# Altium footprint library THAIEASYFOOTPRINT_090120_AD2006.PcbLib: 57 footprints (part 2 of 4)
Each footprint in its own frame and in the unit in brackets; x right, y up, seen from the top. Pads: shape width x height; smd on the part's side, far side on the other; paste and mask are expansions set on the pad; w line width, h text height; cw(c..) or ccw(c..) is an arc to the next point about the centre after c.
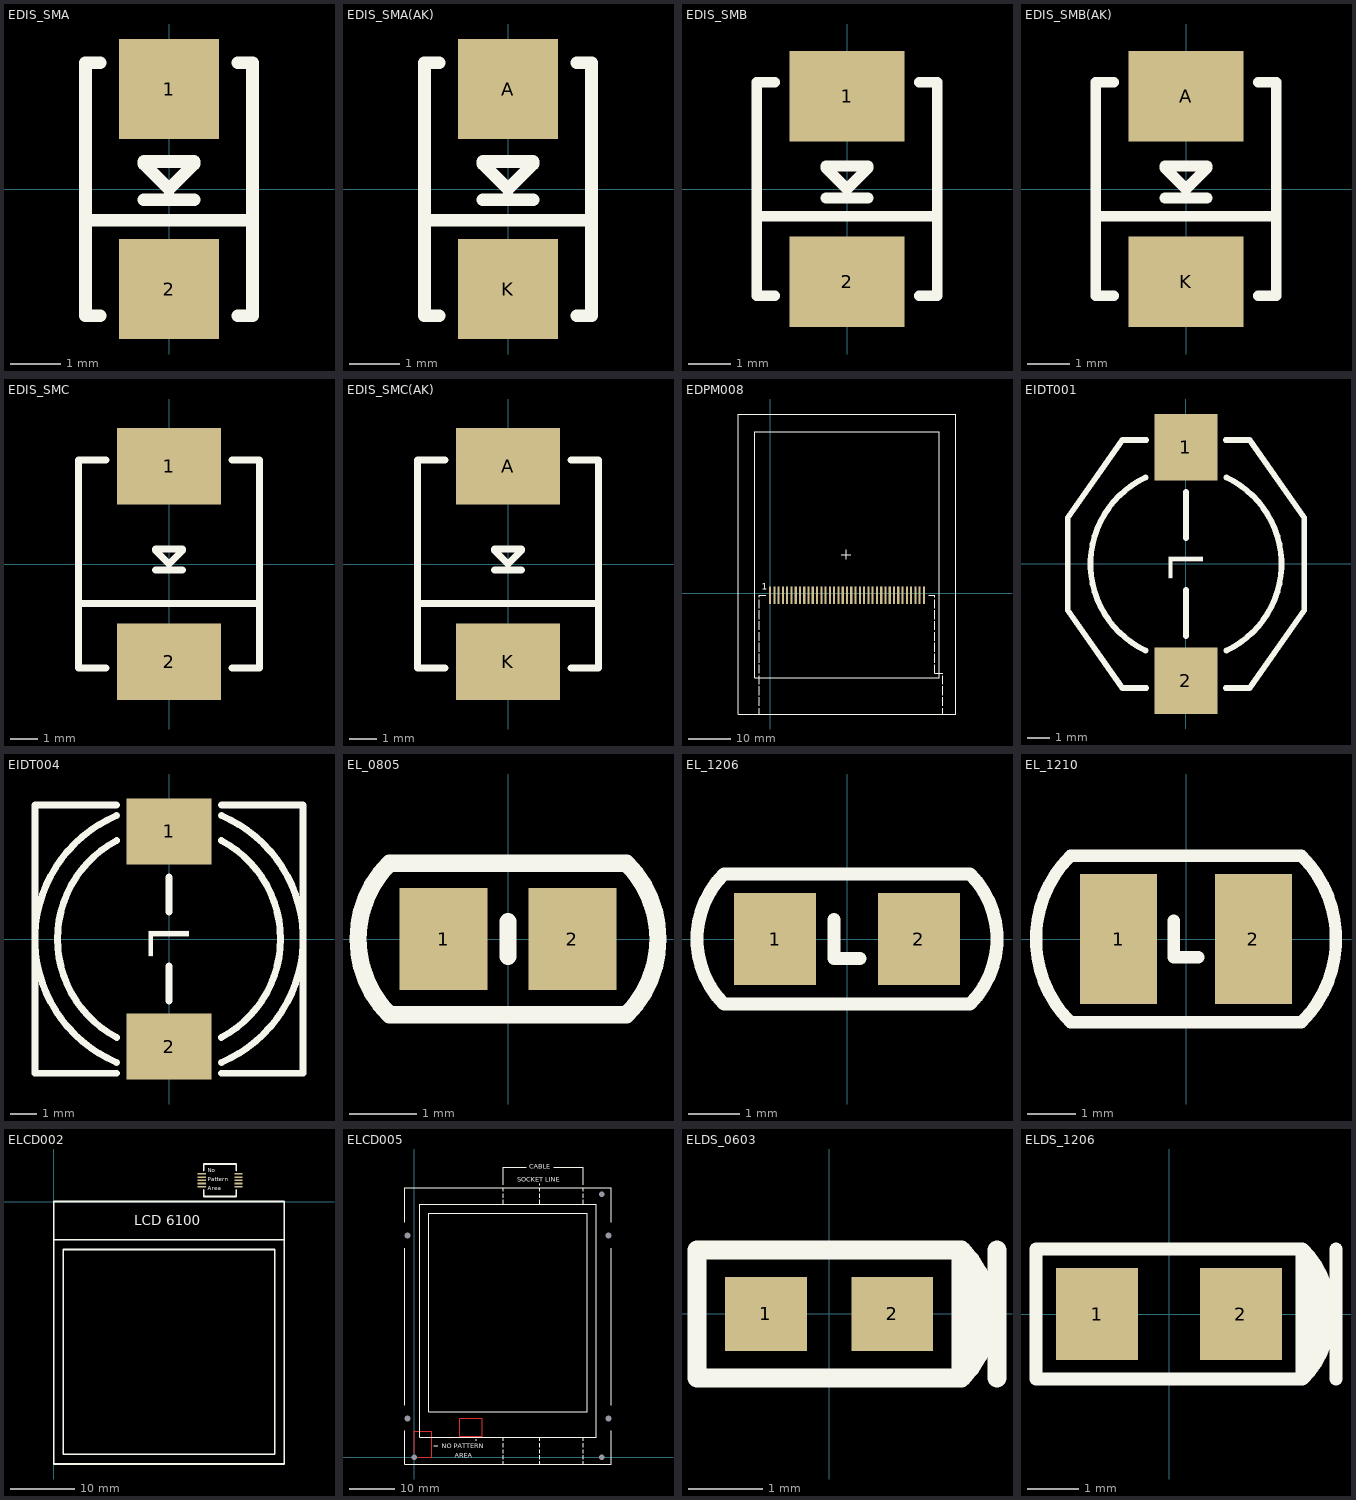
[diagram p1: the footprints below, top view; thin cyan lines are the x and y axes]

## EDIS_SMA [mm] "SURFACE MOUNT DIODE DO-214 AC (SMA)"
height 2.5
pads (2):
  rect 2x2 smd: 1(0,2) 2(0,-2)
Top Overlay:
  lines w0.254: -1.645,-0.625 1.67,-0.625 ; -1.375,-2.535 -1.67,-2.535 -1.67,-0.005 -1.67,2.525 -1.375,2.525 ; -0.5,-0.215 0.5,-0.215 ; 1.375,-2.535 1.67,-2.535 1.67,-0.005 1.67,2.525 1.375,2.525 ; -0.5,0.5 -0.5,0.55 0.5,0.55 0.5,0.5 0,0 -0.5,0.5

## EDIS_SMA(AK) [mm] "SURFACE MOUNT DIODE DO-214 AC (SMA)"
height 2.5
pads (2):
  rect 2x2 smd: A(0,2) K(0,-2)
Top Overlay:
  lines w0.254: -1.645,-0.625 1.67,-0.625 ; -1.375,-2.535 -1.67,-2.535 -1.67,-0.005 -1.67,2.525 -1.375,2.525 ; -0.5,-0.215 0.5,-0.215 ; 1.375,-2.535 1.67,-2.535 1.67,-0.005 1.67,2.525 1.375,2.525 ; -0.5,0.5 -0.5,0.55 0.5,0.55 0.5,0.5 0,0 -0.5,0.5

## EDIS_SMB [mm] "SURFACE MOUNT DIODE DO-214 AA (SMB)"
height 2.15
pads (2):
  rect 2.74x2.16 smd: 1(0,2.21) 2(0,-2.21)
Top Overlay:
  lines w0.254: -2.15,-0.65 2.15,-0.65 ; -1.725,-2.55 -2.15,-2.55 -2.15,2.55 -1.725,2.55 ; -0.5,-0.215 0.5,-0.215 ; 1.725,-2.55 2.15,-2.55 2.15,2.55 1.725,2.55 ; -0.5,0.5 -0.5,0.55 0.5,0.55 0.5,0.5 0,0 -0.5,0.5

## EDIS_SMB(AK) [mm] "SURFACE MOUNT DIODE DO-214 AA (SMB)"
height 2.15
pads (2):
  rect 2.74x2.16 smd: A(0,2.21) K(0,-2.21)
Top Overlay:
  lines w0.254: -2.15,-0.65 2.15,-0.65 ; -1.725,-2.55 -2.15,-2.55 -2.15,2.55 -1.725,2.55 ; -0.5,-0.215 0.5,-0.215 ; 1.725,-2.55 2.15,-2.55 2.15,2.55 1.725,2.55 ; -0.5,0.5 -0.5,0.55 0.5,0.55 0.5,0.5 0,0 -0.5,0.5

## EDIS_SMC [mm] "SURFACE MOUNT DIODE DO-214 AB (SMC)"
height 2.4
pads (2):
  rect 3.81x2.79 smd: 1(0,3.57) 2(0,-3.57)
Top Overlay:
  lines w0.254: -3.3,-1.45 3.3,-1.45 ; -2.3,-3.8 -3.3,-3.8 -3.3,3.8 -2.3,3.8 ; -0.5,-0.215 0.5,-0.215 ; 2.3,-3.8 3.3,-3.8 3.3,3.8 2.3,3.8 ; -0.5,0.5 -0.5,0.55 0.5,0.55 0.5,0.5 0,0 -0.5,0.5

## EDIS_SMC(AK) [mm] "SURFACE MOUNT DIODE DO-214 AB (SMC)"
height 2.4
pads (2):
  rect 3.81x2.79 smd: A(0,3.57) K(0,-3.57)
Top Overlay:
  lines w0.254: -3.3,-1.45 3.3,-1.45 ; -2.3,-3.8 -3.3,-3.8 -3.3,3.8 -2.3,3.8 ; -0.5,-0.215 0.5,-0.215 ; 2.3,-3.8 3.3,-3.8 3.3,3.8 2.3,3.8 ; -0.5,0.5 -0.5,0.55 0.5,0.55 0.5,0.5 0,0 -0.5,0.5

## EDPM008 [mm] "ELT240320TP -- 2.8\" Touch Screen TFT LCD 240x320 Dots"
pads (37):
  rect 0.5x4 smd: 1(0,-0.508) 2(1,-0.508) 3(2,-0.508) 4(3,-0.508) 5(4,-0.508) 6(5,-0.508) 7(6,-0.508) 8(7,-0.508) 9(8,-0.508) 10(9,-0.508) 11(10,-0.508) 12(11,-0.508) 13(12,-0.508) 14(13,-0.508) 15(14,-0.508) 16(15,-0.508) 17(16,-0.508) 18(17,-0.508) 19(18,-0.508) 20(19,-0.508) 21(20,-0.508) 22(21,-0.508) 23(22,-0.508) 24(23,-0.508) 25(24,-0.508) 26(25,-0.508) 27(26,-0.508) 28(27,-0.508) 29(28,-0.508) 30(29,-0.508) 31(30,-0.508) 32(31,-0.508) 33(32,-0.508) 34(33,-0.508) 35(34,-0.508) 36(35,-0.508) 37(36,-0.508)
Top Overlay:
  lines w0.254: -2.5,-26.924 -2.5,-28.3 ; -2.5,-26.416 -2.5,-24.384 ; -2.5,-23.876 -2.5,-21.844 ; -2.5,-21.336 -2.5,-19.304 ; -2.5,-18.796 -2.5,-16.764 ; -2.5,-16.256 -2.5,-14.224 ; -2.5,-13.716 -2.5,-11.684 ; -2.5,-11.176 -2.5,-9.144 ; -2.5,-8.636 -2.5,-6.604 ; -2.5,-6.096 -2.5,-4.064 ; -2.5,-3.556 -2.5,-1.524 ; -2.5,-1.016 -2.5,-0.5 -1.016,-0.5 ; 16.637,9 17.78,9 ; 17.78,7.857 17.78,9 ; 17.78,10.143 17.78,9 ; 18.923,9 17.78,9 ; 37.084,-0.5 38.5,-0.5 38.5,-1.016 ; 38.5,-18.8 40.4,-18.8 ; 38.5,-18.796 38.5,-16.764 ; 38.5,-16.256 38.5,-14.224 ; 38.5,-13.716 38.5,-11.684 ; 38.5,-11.176 38.5,-9.144 ; 38.5,-8.636 38.5,-6.604 ; 38.5,-6.096 38.5,-4.064 ; 38.5,-3.556 38.5,-1.524 ; 40.4,-28.3 40.4,-26.924 ; 40.4,-26.416 40.4,-24.384 ; 40.4,-23.876 40.4,-21.844 ; 40.4,-21.336 40.4,-19.304 ; -2.5,-28.3 -7.5,-28.3 -7.5,41.9 43.5,41.9 43.5,-28.3 -2.5,-28.3 ; -3.6,-19.8 39.6,-19.8 39.6,37.8 -3.6,37.8 -3.6,-19.8
  text "1" at -1.905,0.762 h1.52

## EIDT001 [mil] "P0752.104NLT -- INDUCTOR PWR UNSHIELD 100UH 1.2A SMD"
height 215
pads (2):
  rect 110x115 smd: 1(0,202.5) 2(0,-202.5)
Top Overlay:
  lines w10: -70,-150 cw(c0,0) -70,150 ; -69,-215 -110,-215 -205,-80 -205,0 -205,80 -110,215 -69,215 ; 0,-125 0,-45 ; 0,45 0,125 ; 69,-215 110,-215 205,-80 205,0 205,80 110,215 69,215 ; 70,-150 ccw(c0,0) 70,150
  text "L" at -30,20 h60

## EIDT004 [mm] "SLF10145T-101M1R0-PF -- INDUCTOR SHIELD PWR 100UH 10145 1.1A"
height 4.5
pads (2):
  rect 3.2x2.5 smd: 1(0,4.05) 2(0,-4.05)
Top Overlay:
  lines w0.254: -1.981,-5.055 -5.045,-5.055 -5.05,-5.05 -5.05,5.05 -1.981,5.05 ; -1.973,-4.649 cw(c0,0) -1.973,4.649 ; -1.972,-3.708 cw(c0,0) -1.972,3.708 ; 0,-2.337 0,-1.016 ; 0,1.016 0,2.337 ; 1.972,-3.708 ccw(c0,0) 1.972,3.708 ; 1.973,-4.649 ccw(c0,0) 1.973,4.649 ; 1.981,-5.055 5.045,-5.055 5.05,-5.05 5.05,5.05 1.981,5.05
  text "L" at -0.762,0.5 h1.52

## EL_0805 [mm] "INDUCTOR, FERRITE CHIP 0805"
height 2
pads (2):
  rect 1.3x1.5 smd: 1(-0.95,0) 2(0.95,0)
Top Overlay:
  lines w0.254: 0,-0.254 0,0.254 ; -1.75,-1.118 cw(c-0.632,0) -1.75,1.118 1.75,1.118 cw(c0.632,0) 1.75,-1.118 -1.75,-1.118

## EL_1206 [mm] "INDUCTOR, FERRITE CHIP 1206"
height 2
pads (2):
  rect 1.6x1.8 smd: 1(-1.4,0) 2(1.4,0)
Top Overlay:
  lines w0.254: -0.254,0.381 -0.254,-0.381 0.254,-0.381 ; -2.4,-1.27 cw(c-1.13,0) -2.4,1.27 2.4,1.27 cw(c1.13,0) 2.4,-1.27 -2.4,-1.27

## EL_1210 [mm] "INDUCTOR, FERRITE CHIP 1210"
height 2
pads (2):
  rect 1.6x2.7 smd: 1(-1.4,0) 2(1.4,0)
Top Overlay:
  lines w0.254: -0.254,0.381 -0.254,-0.381 0.254,-0.381 ; -2.4,-1.727 cw(c-0.673,0) -2.4,1.727 2.4,1.727 cw(c0.673,0) 2.4,-1.727 -2.4,-1.727

## ELCD002 [mm]
height 3.6
pads (10):
  rect 1.3x0.25 smd: 1(23.114,4.318) 2(23.114,3.818) 3(23.114,3.318) 4(23.114,2.818) 5(23.114,2.318) 6(28.868,2.318) 7(28.868,2.818) 8(28.868,3.318) 9(28.868,3.818) 10(28.868,4.318)
Top Overlay:
  lines w0.254: 0,-6 36,-6 ; 23.451,1.794 23.451,0.778 23.959,0.778 25.991,0.778 28.15,0.778 28.531,0.778 28.531,1.794 ; 23.451,4.842 23.451,5.858 25.991,5.858 ; 23.959,5.858 25.991,5.858 ; 28.531,4.842 28.531,5.858 28.023,5.858 25.991,5.858 ; 0,-41 36,-41 36,0 0,0 0,-41 ; 1.5,-39.5 1.5,-7.5 34.5,-7.5 34.5,-39.5 1.5,-39.5
  text "LCD 6100" at 12.573,-3.683 h1.52
  text "Area" at 24.086,1.794 h0.6
  text "Pattern" at 24.086,3.191 h0.6
  text "No" at 24.086,4.588 h0.6

## ELCD005 [mm] "DM176220TT5605 -- GLCD WITH TOUCH SCREEN"
height 4.4
pads (7):
  round 0 hole 1.2: 41(0,0) 41(41.2,0) 41(41.2,57.6)
  round 0 hole 1.3: ""(-1.472,8.508) ""(-1.472,48.6) ""(42.672,8.508) ""(42.672,48.6)
Top Layer:
  lines w0.254: 0,0.889 0,5.715 3.937,5.715 3.937,0 0.889,0 ; 9.986,4.572 14.986,4.572 14.986,8.509 9.986,8.509 9.986,4.572
Top Overlay:
  lines w0.254: -2,5.81 -2,-1.5 43.2,-1.5 43.2,5.81 ; -2,11.43 -2,45.815 ; -2,51.467 -2,59.1 43.2,59.1 43.2,51.467 ; 4.318,2.54 5.207,2.54 ; 13.589,3.556 13.589,3.937 ; 19.558,-1.5 19.558,-0.934 ; 19.558,-0.426 19.558,0.381 ; 19.558,0.841 19.558,1.648 ; 19.558,2.156 19.558,3.045 ; 19.558,3.553 19.558,4.36 ; 19.558,56.896 19.558,57.785 ; 19.558,58.293 19.558,59.1 ; 19.558,59.69 19.558,63.5 24.638,63.5 ; 19.559,55.581 19.559,56.388 ; 27.559,-1.5 27.559,-0.934 ; 27.559,-0.426 27.559,0.381 ; 27.559,0.841 27.559,1.648 ; 27.559,2.156 27.559,3.045 ; 27.559,3.553 27.559,4.36 ; 27.559,55.581 27.559,56.388 ; 27.559,56.896 27.559,57.785 ; 27.559,58.293 27.559,59.1 ; 27.559,59.563 27.559,59.944 ; 30.607,63.5 37.059,63.5 37.059,59.69 ; 37.059,-1.5 37.059,-0.934 ; 37.059,-0.426 37.059,0.381 ; 37.059,0.841 37.059,1.648 ; 37.059,2.156 37.059,3.045 ; 37.059,3.553 37.059,4.36 ; 37.058,55.581 37.058,56.388 ; 37.059,56.896 37.059,57.785 ; 37.059,58.293 37.059,59.1 ; 43.2,11.43 43.2,45.815 ; 1.3,4.36 1.3,55.48 39.9,55.48 39.9,4.36 1.3,4.36 ; 3.175,9.92 3.175,53.48 38.025,53.48 38.025,9.92 3.175,9.92
  text "SOCKET LINE" at 22.606,60.325 h1.02
  text "NO PATTERN" at 6.096,1.905 h1.02
  text "AREA" at 8.89,-0.127 h1.02
  text "CABLE" at 25.273,63.246 h1.02

## ELDS_0603 [mm] "SMT LED 0603"
height 0.8
pads (2):
  rect 1.1x1 smd: 1(-0.85,0) 2(0.85,0)
Top Overlay:
  rectangle: 1.88,-0.508 2.057,0.508
  lines w0.254: 2.261,-0.864 2.261,0.864 ; 1.779,-0.864 ccw(c0.915,0) 1.779,0.864 ; 1.778,-0.864 1.778,0.864 ; 1.778,-0.864 -1.778,-0.864 -1.778,0.864 1.778,0.864

## ELDS_1206 [mm] "SMT LED 1206"
height 1.1
pads (2):
  rect 1.6x1.8 smd: 1(-1.4,0) 2(1.4,0)
Top Overlay:
  rectangle: 2.845,-0.559 3.073,0.559
  rectangle: 2.693,-0.94 2.947,0.94
  lines w0.254: 2.603,-1.27 ccw(c1.333,0) 2.603,1.27 ; 3.251,-1.27 3.251,1.27 ; -2.591,-1.27 2.591,-1.27 2.591,1.27 -2.591,1.27 -2.591,-1.27